# Altium schematic symbol library Schlib2.SchLib: 79 symbols
Pins are listed as number, name and electrical type; pins without a type are passive.

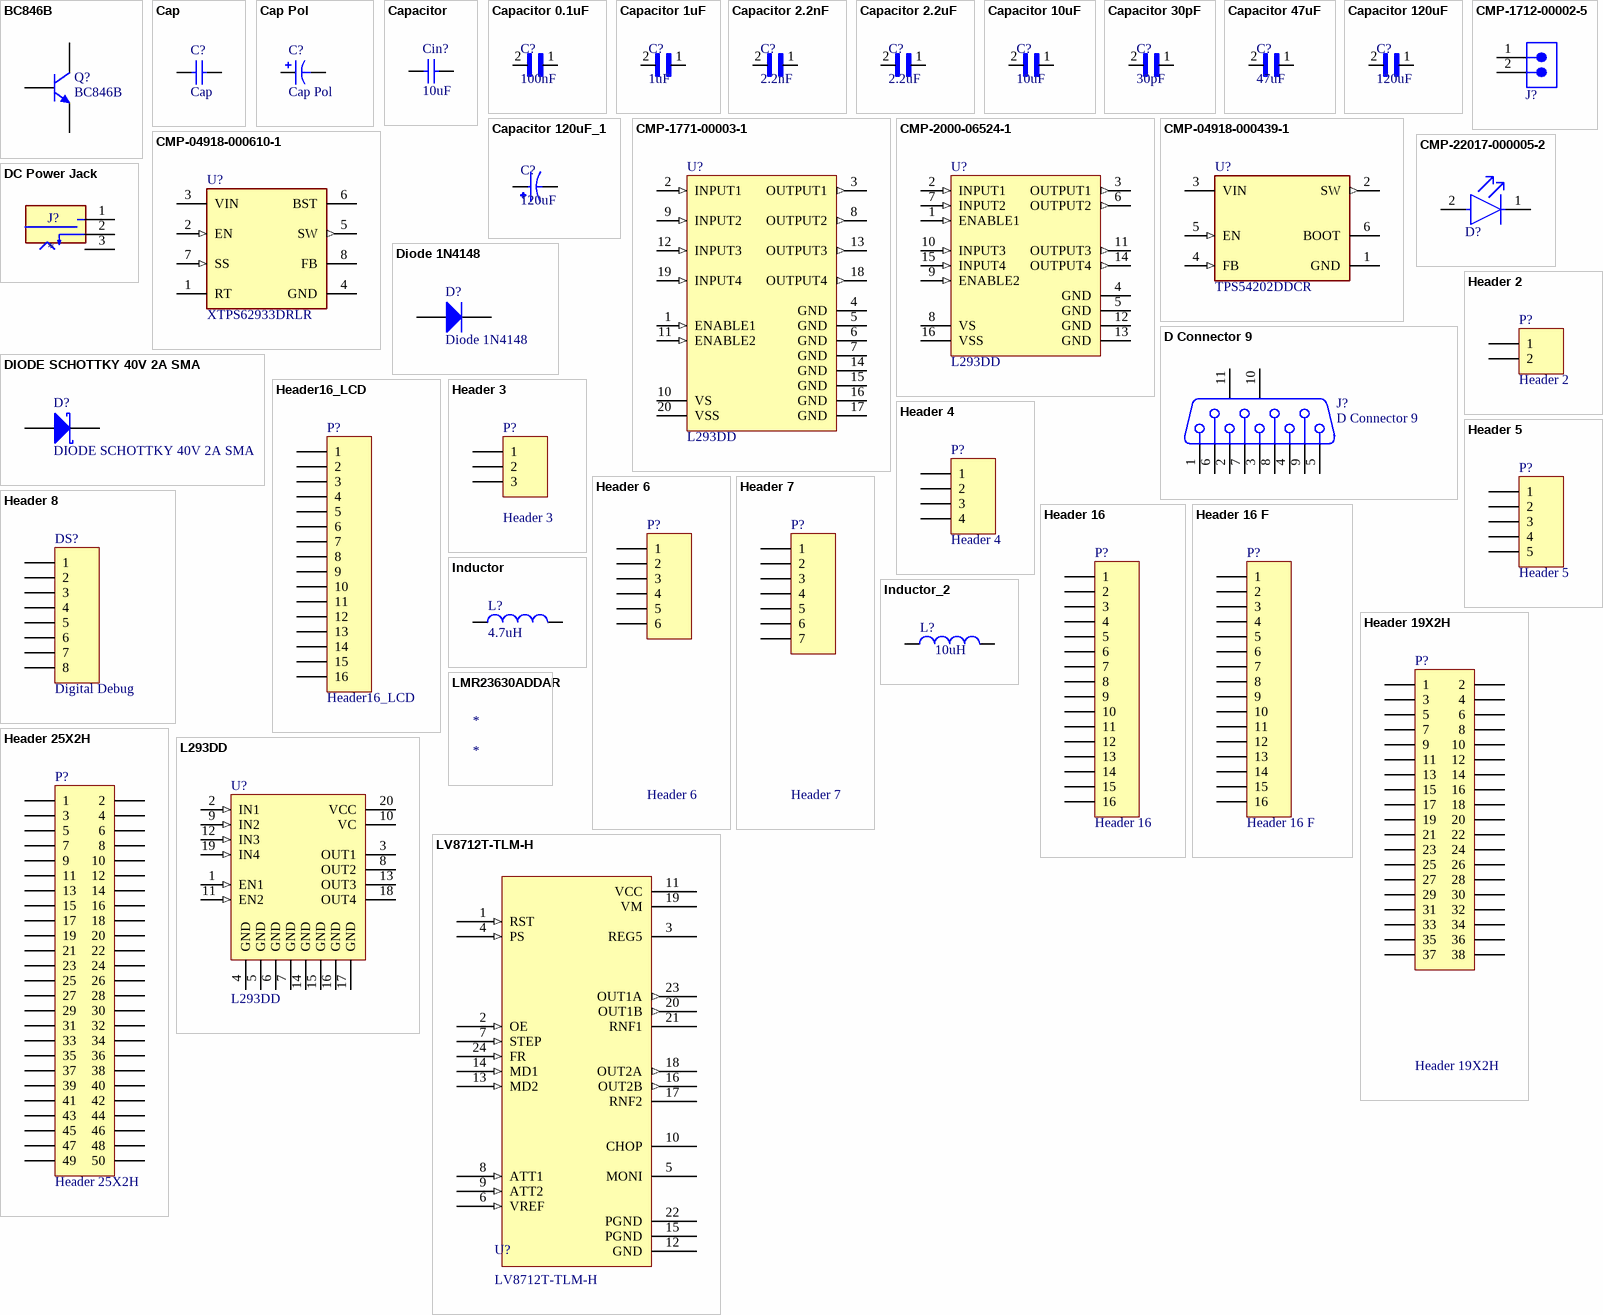
[diagram p0: symbols BC846B to LV8712T-TLM-H]

## BC846B
designator Q?
TRANS NPN 65V 0.1A SOT23; MPN: BC846B,215; PN: 568-1632-1-ND; URL: http://www.digikey.ca/product-detail/en/BC846B,215/568-1632-1-ND
footprint SOT95P230X110-3M (SOT23, 3-Leads, Body 2.90x2.30mm, Pitch 0.95mm, IPC Low Density)
pins: 1 B, 2 E, 3 C

## Cap
designator C?
Capacitor
pins: 1, 2

## Cap Pol
designator C?
Polarized Capacitor
pins: 1, 2
1 alternate drawing of the same symbol

## Capacitor
designator Cin?, comment value 10uF  (hidden comment: Capacitor Temp)
SimulationGenericComponent: True
simulation model C_Capacitor_Default (CAP)
footprint CAPC2012X09M (Chip Capacitor, 2-Leads, Body 2.00x1.25mm, IPC Low Density)
pins: 1, 2

## Capacitor 0.1uF
designator C?, comment 100nF
Ceramic Capacitor 1210; MF: Samsung Electro-Mechanics; MP: CL32A106KBJNNNE; Check_prices: https://www.snapeda.com/parts/CL32A106KBJNNNE/Samsung%20Electro-Mechanics/view-part/3598300/?ref=eda; Value: *; SnapEDA_Link: https://www.snapeda.com/parts/CL32A106KBJNNNE/Samsung%20Electro-Mechanics/view-part/3598300/?ref=snap; Package: 1210 Samsung; Availability: Unavailable; Price: None; Supplier 1: Mouser; Supplier Part Number 1: 80-C1210C104K1R
footprint 10 uF Cap (1210 footprint)
pins: 1, 2

## Capacitor 1uF
designator C?, comment 1uF
Ceramic Capacitor 1210; MF: Samsung Electro-Mechanics; MP: CL32A106KBJNNNE; Check_prices: https://www.snapeda.com/parts/CL32A106KBJNNNE/Samsung%20Electro-Mechanics/view-part/3598300/?ref=eda; Value: *; SnapEDA_Link: https://www.snapeda.com/parts/CL32A106KBJNNNE/Samsung%20Electro-Mechanics/view-part/3598300/?ref=snap; Package: 1210 Samsung; Availability: Unavailable; Price: None; Supplier 1: Arrow Electronics; Supplier Part Number 1: CL32B105KCJNNNE
footprint 10 uF Cap (1210 footprint)
pins: 1, 2

## Capacitor 2.2nF
designator C?, comment 2.2nF
Ceramic Capacitor 1210; MF: Samsung Electro-Mechanics; MP: CL32A106KBJNNNE; Check_prices: https://www.snapeda.com/parts/CL32A106KBJNNNE/Samsung%20Electro-Mechanics/view-part/3598300/?ref=eda; Value: *; SnapEDA_Link: https://www.snapeda.com/parts/CL32A106KBJNNNE/Samsung%20Electro-Mechanics/view-part/3598300/?ref=snap; Package: 1210 Samsung; Availability: Unavailable; Price: None; Supplier 1: Mouser; Supplier Part Number 1: 80-C1210C222K1HAUTO
footprint 10 uF Cap (1210 footprint)
pins: 1, 2

## Capacitor 2.2uF
designator C?, comment 2.2uF
Ceramic Capacitor 1210; MF: Samsung Electro-Mechanics; MP: CL32A106KBJNNNE; Check_prices: https://www.snapeda.com/parts/CL32A106KBJNNNE/Samsung%20Electro-Mechanics/view-part/3598300/?ref=eda; Value: *; SnapEDA_Link: https://www.snapeda.com/parts/CL32A106KBJNNNE/Samsung%20Electro-Mechanics/view-part/3598300/?ref=snap; Package: 1210 Samsung; Availability: Unavailable; Price: None; Supplier 1: Avnet; Supplier Part Number 1: 41AH7123
footprint 10 uF Cap (1210 footprint)
pins: 1, 2

## Capacitor 10uF
designator C?, comment 10uF
Ceramic Capacitor 1210; MF: Samsung Electro-Mechanics; MP: CL32A106KBJNNNE; Check_prices: https://www.snapeda.com/parts/CL32A106KBJNNNE/Samsung%20Electro-Mechanics/view-part/3598300/?ref=eda; Value: *; SnapEDA_Link: https://www.snapeda.com/parts/CL32A106KBJNNNE/Samsung%20Electro-Mechanics/view-part/3598300/?ref=snap; Package: 1210 Samsung; Availability: Unavailable; Price: None; Supplier 1: Avnet; Supplier Part Number 1: CL32A106KBJNNNE
footprint 10 uF Cap (1210 footprint)
pins: 1, 2

## Capacitor 30pF
designator C?, comment 30pF
Ceramic Capacitor 1210; MF: Samsung Electro-Mechanics; MP: CL32A106KBJNNNE; Check_prices: https://www.snapeda.com/parts/CL32A106KBJNNNE/Samsung%20Electro-Mechanics/view-part/3598300/?ref=eda; Value: *; SnapEDA_Link: https://www.snapeda.com/parts/CL32A106KBJNNNE/Samsung%20Electro-Mechanics/view-part/3598300/?ref=snap; Package: 1210 Samsung; Availability: Unavailable; Price: None; Supplier 1: Digikey; Supplier Part Number 1: 478-KGQ32DCG2D300JTCT-ND
footprint 10 uF Cap (1210 footprint)
pins: 1, 2

## Capacitor 47uF
designator C?, comment 47uF
Ceramic Capacitor 1210; MF: Samsung Electro-Mechanics; MP: CL32A106KBJNNNE; Check_prices: https://www.snapeda.com/parts/CL32A106KBJNNNE/Samsung%20Electro-Mechanics/view-part/3598300/?ref=eda; Value: *; SnapEDA_Link: https://www.snapeda.com/parts/CL32A106KBJNNNE/Samsung%20Electro-Mechanics/view-part/3598300/?ref=snap; Package: 1210 Samsung; Availability: Unavailable; Price: None; Supplier 1: Mouser; Supplier Part Number 1: 81-GRM32EC81C476KE5K
footprint 10 uF Cap (1210 footprint)
pins: 1, 2

## Capacitor 120uF
designator C?, comment 120uF
Ceramic Capacitor 1210; MF: Samsung Electro-Mechanics; MP: CL32A106KBJNNNE; Check_prices: https://www.snapeda.com/parts/CL32A106KBJNNNE/Samsung%20Electro-Mechanics/view-part/3598300/?ref=eda; Value: *; SnapEDA_Link: https://www.snapeda.com/parts/CL32A106KBJNNNE/Samsung%20Electro-Mechanics/view-part/3598300/?ref=snap; Package: 1210 Samsung; Availability: Unavailable; Price: None; Supplier 1: Avnet; Supplier Part Number 1: CL32A106KBJNNNE
footprint 10 uF Cap (1210 footprint)
pins: 1, 2

## Capacitor 120uF_1
designator C?, comment 120uF
120 µF 10 V Aluminum - Polymer Capacitors Radial, Can - SMD 27mOhm 2000 Hrs @ 105°C; MP: 10SVPC120M; Package: None; Price: None; Availability: Unavailable; Value: *
footprint Capacitor 120uF
pins: 1, 2

## CMP-1712-00002-5
designator J?, comment 61300211121  (value not drawn)
NexarPartId: 20081794; Manufacturer: Wurth Electronics; Operating Supply Voltage: 250V; Current Rating: 3A; Gender: Male; Number of Contacts: 2; Pitch: 2.54mm; Connector Type: Male Pin; Contact Resistance: 20mΩ; Contact Plating: Gold; Contact Material: Copper; Number of Pins: 2; Min Operating Temperature: -40°C; Packaging: Bulk; Lead Pitch: 2.54mm; Mount: Through Hole; Orientation: Vertical; RoHS: Compliant; REACH SVHC: No SVHC; Height: 8.94mm; Termination: Through Hole; Number of Positions: 2; Contact Mating Length: 5.9944mm; Color: Black; Contact Gender: Male; Number of Rows: 1; Housing Material: PBT; Lead Free: Lead Free; Voltage Rating: 250V; Max Operating Temperature: 125°C; Manufacturer Part Number: 61300211121
footprint 61300211121 (THT Vertical Pin Header WR-PHD, Pitch 2.54 mm, Single Row, 2 pins)
pins: 1, 2

## CMP-1771-00003-1
designator U?, comment L293DD
Push-Pull Four Channel Driver with Diodes, 4.5 to 36 V, 20-Pin SOIC, RoHS, Tube; Manufacturer: STMicroelectronics; Voltage Rating: 50 V; Power Rating: 100 mW; Case\Package: 0603; Resistance: 15 kohm; Tolerance: 1%; REACH SVHC: Unknown; Case Code (Imperial): 0603; ComponentLink2Description: Datasheet; ComponentLink2URL: http://www.st.com/content/ccc/resource/technical/document/datasheet/04/ac/22/f9/20/5d/43/a1/CD00000059.pdf/files/CD00000059.pdf/jcr:content/translations/en.CD00000059.pdf; Max Operating Temperature: 155 degC; Width: 0.8 mm; ComponentLink1URL: http://www.st.com/; ComponentLink1Description: Manufacturer URL; Length: 1.6 mm; Package Quantity: 5000; RoHSCompliant: true; Height: 0.45 mm; Mount: Surface Mount; PackageDescription: 20-Pin Small Outline Integrated Circuit, Body 12.8 x 7.5 mm, Pitch 1.27 mm; PackageReference: SOIC-20; Packaging: Tape and Reel; Min Operating Temperature: -55 degC; Case Code (Metric): 1608; DatasheetVersion: Jul-03; Manufacturer Part Number: L293DD
footprint STM-SOIC-20_M (SOIC, 20-Leads, Body 13x7.6mm, Pitch 1.27mm, IPC Low Density)
footprint STM-SOIC-20_L (SOIC, 20-Leads, Body 13x7.6mm, Pitch 1.27mm, IPC High Density)
footprint STM-SOIC-20_N (SOIC, 20-Leads, Body 13x7.6mm, Pitch 1.27mm, IPC Medium Density)
pins: 1 ENABLE1 (in), 2 INPUT1 (in), 3 OUTPUT1 (out), 4 GND (power), 5 GND (power), 6 GND (power), 7 GND (power), 8 OUTPUT2 (out), 9 INPUT2 (in), 10 VS (power), 11 ENABLE2 (in), 12 INPUT3 (in), 13 OUTPUT3 (out), 14 GND (power), 15 GND (power), 16 GND (power), 17 GND (power), 18 OUTPUT4 (out), 19 INPUT4 (in), 20 VSS (power)

## CMP-2000-06524-1
designator U?, comment L293DD
Push-Pull Four Channel Driver with Diode, 4.5 to 36 V, -40 to 150 degC, 16-Pin PDIP, RoHS, Tube; PartNumber: L293D; Manufacturer: STMicroelectronics; Number of Outputs: 4; Current - Peak Output: 1.2A; Current - Output / Channel: 600mA; Input Type: Non-Inverting; Other Related Documents: L293DViewAllSpecifications; Dynamic Catalog: HalfBridge; Voltage - Supply: 4.5V~36V; Other Names: 497-2936-5; Package / Case: 16-DIP(0.300",7.62mm); Operating Temperature: -40°C~150°C; Datasheet URL: http://www.st.com/st-web-ui/static/active/en/resource/technical/document/datasheet/CD00000059.pdf; Supplier Device Package: 16-PowerDIP; Packaging: Tube; Package Description: 16-Pin Thru-Hole Dual-In-Line, Body 20 x 6.85 mm, Pitch 2.54 mm; Standard Package: 25; Datasheet Version: 07/2003; On-State Resistance: -; Manufacturer URL: http://www.st.com/; Category: IntegratedCircuits(ICs); Family: PMIC-MOSFET,BridgeDrivers-InternalSwitch; Type: HalfBridge; Series: -; Mounting Technology: ThroughHole; Package Reference: DIP-16; Mounting Type: ThroughHole; Manufacturer Part Number: L293D
footprint STM-L293D-16 (DIP, 16-Leads, Body 20x6.85mm, Pitch 2.54mm)
pins: 1 ENABLE1 (in), 2 INPUT1 (in), 3 OUTPUT1 (out), 4 GND (power), 5 GND (power), 6 OUTPUT2 (out), 7 INPUT2 (in), 8 VS (power), 9 ENABLE2 (in), 10 INPUT3 (in), 11 OUTPUT3 (out), 12 GND (power), 13 GND (power), 14 OUTPUT4 (out), 15 INPUT4 (in), 16 VSS (power)

## CMP-04918-000439-1
designator U?, comment TPS54202DDCR
IC REG BUCK ADJ 2A TSOT23-6; Manufacturer: Texas Instruments; Switching Frequency: 500kHz; Quiescent Current: 40uA; Max Output Voltage: 28V; Output Configuration: Positive; Min Output Voltage: 596mV; Min Input Voltage: 4.5V; Synchronous Rectifier: Yes; Output Type: Adjustable; Number of Outputs: 1; Packaging: Tape and Reel; Case/Package: SOT-23-6; RoHS Compliant: Yes; Max Input Voltage: 28V; Max Operating Temperature: 125°C; Min Operating Temperature: -40°C; Output Current: 2A; Lead Free: Lead Free; Mount: Surface Mount; Manufacturer Part Number: TPS54202DDCR
footprint FP-DDC0006A-IPC_B
footprint FP-DDC0006A-IPC_A
footprint FP-DDC0006A-IPC_C
footprint FP-DDC0006A-MFG
pins: 1 GND (power), 2 SW (out), 3 VIN (power), 4 FB (in), 5 EN (in), 6 BOOT

## CMP-04918-000610-1
designator U?, comment XTPS62933DRLR
3.8-V to 30-V, 3-A, 200-kHz to 2.2-MHz, low-IQ synchronous buck converter in SOT-583 package 8-SOT-5X3 -40 to 150; Manufacturer: Texas Instruments; Manufacturer Part Number: XTPS62933DRLR
footprint FP-DRL0008A-MFG
pins: 1 RT, 2 EN (in), 3 VIN (power), 4 GND (power), 5 SW (out), 6 BST, 7 SS (in), 8 FB

## CMP-22017-000005-2
designator D?, comment LTST-C190GKT  (value not drawn)
LED GREEN CLEAR CHIP SMD; Manufacturer: Vishay Lite-On; Dominant Wavelength: 569nm; Reverse Voltage: 5V; Lens Color: Colorless; Viewing Angle: 130°; Voltage: 2V; Forward Current: 30mA; Power Dissipation: 100mW; Luminous Intensity: 6mcd; Number of LEDs: 1; Forward Voltage: 2.1V; Wavelength: 565nm; Test Current: 10mA; Min Operating Temperature: -55°C; Lens Style: Clear; Mount: Surface Mount; Width: 0.8mm; Packaging: Tape and Reel; Lens Transparency: Clear; Case Code (Metric): 1608; Depth: 0.8mm; Case Code (Imperial): 0603; Case/Package: 0603; Number of Pins: 2; Max Operating Temperature: 85°C; Lead Free: Lead Free; Number of Elements: 1; Length: 1.6mm; Height: 0.8mm; Package Quantity: 1; Power Rating: 100mW; Radiation Hardening: No; Illumination Color: Green; Color: Green; Manufacturer Part Number: LTST-C190GKT
footprint FP-LTST-C190GKT-MFG
pins: 1 C, 2 A

## D Connector 9
designator J?
Receptacle Assembly, 9 Position, Right Angle; MPN: ADF09A-KG-TASB3-R; PN: AE10921-ND; URL: http://www.digikey.ca/product-detail/en/ADF09A-KG-TASB3-R/AE10921-ND
footprint DSUB1.385-2H9 (Connector; D Subminiature; 9 Position; Right Angle; Pitch 1.385 mm)
signal-integrity model Connector
pins: 1, 2, 3, 4, 5, 6, 7, 8, 9, 10 MH1, 11 MH2

## DC Power Jack
designator J?
DC Power Connectors Power Jack/Connector 2.1mm x 5.5mm; MF: Gravitech; MP: CON-SOCJ-2155; Package: None; Value: *; Availability: In Stock; Check_prices: https://www.snapeda.com/parts/CON-SOCJ-2155/Gravitech/view-part/?ref=eda; SnapEDA_Link: https://www.snapeda.com/parts/CON-SOCJ-2155/Gravitech/view-part/?ref=snap; Price: None
footprint GRAVITECH_CON-SOCJ-2155
pins: 1, 2, 3

## Diode 1N4148
designator D?
High Conductance Fast Diode; MPN: 1N4148WX-TP; PN: 1N4148WXTPMSCT-ND; URL: http://www.digikey.ca/product-detail/en/1N4148WX-TP/1N4148WXTPMSCT-ND
signal-integrity model 1N4148
footprint zener_sod323
pins: A, K

## DIODE SCHOTTKY 40V 2A SMA
designator D?
Schottky Rectifier; MPN: B240A-13-F; PN: B240A-FDICT-ND; URL: http://www.digikey.ca/product-detail/en/B240A-13-F/B240A-FDICT-ND
footprint DIOM4326X23M (Molded Diode, 2-Leads, Body 4.30x2.60mm, IPC Low Density)
pins: 1 K, 2 A

## Header16_LCD
designator P?
Header, 16-Pin Female; MPN: PPPC161LFBN-RC; PN: S7049-ND; URL: http://www.digikey.ca/product-detail/en/PPPC161LFBN-RC/S7049-ND
signal-integrity model Connector
footprint HDR1X16 (Connector; Header; 16 Position)
pins: 1, 2, 3, 4, 5, 6, 7, 8, 9, 10, 11, 12, 13, 14, 15, 16

## Header 2
designator P?
Header, 2-Pin Male; MPN: PEC02SFAN; PN: S1212E-02-ND; URL: http://www.digikey.ca/product-detail/en/PEC04SFAN/S1212E-02-ND
footprint HDR1X2 (Connector; Header; 4 Position)
pins: 1, 2

## Header 3
designator P?
Header, 3-Pin Male; MPN: PEC03SFAN; PN: S1212E-03-ND; URL: http://www.digikey.ca/product-detail/en/PEC03SFAN/S1212E-03-ND
footprint HDR1X3 (Connector; Header; 3 Position)
pins: 1, 2, 3

## Header 4
designator P?
Header, 4-Pin Male; MPN: PEC04SFAN; PN: S1212E-04-ND; URL: http://www.digikey.ca/product-detail/en/PEC04SFAN/S1212E-04-ND
footprint HDR1X4 (Connector; Header; 4 Position)
pins: 1, 2, 3, 4

## Header 5
designator P?
Header, 5-Pin Male; MPN: PEC05SFAN; PN: S1212E-05-ND; URL: http://www.digikey.ca/product-detail/en/PEC05SFAN/S1212E-05-ND/859446
footprint HDR1X5 (Connector; Header; 5 Position)
pins: 1, 2, 3, 4, 5

## Header 6
designator P?
Header, 6-Pin Male; MPN: PEC06SFAN; PN: S1212E-06-ND; URL: http://www.digikey.ca/product-detail/en/PEC06SFAN/S1212E-06-ND
footprint HDR1X6 (Connector; Header; 6 Position)
pins: 1, 2, 3, 4, 5, 6

## Header 7
designator P?
Header, 7-Pin Male; MPN: PEC07SFAN; PN: S1212E-07-ND; URL: http://www.digikey.ca/product-detail/en/PEC07SFAN/S1212E-07-ND
footprint HDR1X7 (Connector; Header; 16 Position)
pins: 1, 2, 3, 4, 5, 6, 7

## Header 8
designator DS?, comment Digital Debug
Header, 8-Pin Male; MPN: PEC08SFAN; PN: S1212E-08-ND; URL: http://www.digikey.ca/product-detail/en/PEC08SFAN/S1212E-08-ND
footprint HDR1X8 (Connector; Header; 16 Position)
pins: 1, 2, 3, 4, 5, 6, 7, 8

## Header 16
designator P?
Header, 16-Pin Male; MPN: PEC16SFAN; PN: S1212E-16-ND; URL: http://www.digikey.ca/product-detail/en/PEC16SFAN/S1212E-16-ND
footprint HDR1X16 (Connector; Header; 16 Position)
pins: 1, 2, 3, 4, 5, 6, 7, 8, 9, 10, 11, 12, 13, 14, 15, 16

## Header 16 F
designator P?
Header, 16-Pin Female; MPN: PPPC161LFBN-RC; PN: S7049-ND; URL: http://www.digikey.ca/product-detail/en/PPPC161LFBN-RC/S7049-ND
footprint HDR1X16F (Connector; Header; 16 Position, Female)
pins: 1, 2, 3, 4, 5, 6, 7, 8, 9, 10, 11, 12, 13, 14, 15, 16

## Header 19X2H
designator P?
38 Position Header Connector 0.100in (2.54mm) Through Hole Gold; MPN: PPPC192LFBN-RC; PN: S7122-ND; URL: https://www.digikey.ca/product-detail/en/sullins-connector-solutions/PPPC192LFBN-RC/S7122-ND
signal-integrity model Connector
footprint PPPC192LFBN-RC (38 Position Header Connector 0.100in (2.54mm) Through Hole Gold)
pins: 1, 2, 3, 4, 5, 6, 7, 8, 9, 10, 11, 12, 13, 14, 15, 16, 17, 18, 19, 20, 21, 22, 23, 24, 25, 26, 27, 28, 29, 30, 31, 32, 33, 34, 35, 36, 37, 38

## Header 25X2H
designator P?
Header, 25-Pin, Dual row, female; MPN: PPPC252LFBN-RC; PN: S7128-ND; URL: http://www.digikey.ca/product-detail/en/PPPC252LFBN-RC/S7128-ND
signal-integrity model Connector
footprint PPPC252LFBN-RC (Connector; Header; 25x2 Position, Large pads)
pins: 1, 2, 3, 4, 5, 6, 7, 8, 9, 10, 11, 12, 13, 14, 15, 16, 17, 18, 19, 20, 21, 22, 23, 24, 25, 26, 27, 28, 29, 30, 31, 32, 33, 34, 35, 36, 37, 38, 39, 40, 41, 42, 43, 44, 45, 46, 47, 48, 49, 50

## Inductor
designator L?, comment value 4.7uH  (hidden comment: 15uH)
15 µH Unshielded Wirewound Inductor 4 A 36mOhm Max Nonstandard; SimulationGenericComponent: True
simulation model L_Inductor_Default (INDUCTOR)
footprint 15uH Inductor (FIXED IND 15UH 4A 36 MOHM SMD)
pins: 1, 2

## Inductor_2
designator L?, comment 10uH  (value not drawn)
10 µH Unshielded Wirewound Inductor 2.6 A 60mOhm Max 2424 (6060 Metric); SimulationGenericComponent: True
footprint 10uH Inductor (10 µH Unshielded Wirewound Inductor 2.6 A 60mOhm Max 2424 (6060 Metric))
pins: 1, 2

## L293DD
designator U?
IC MOTOR DRIVER PAR 20-SOIC; MPN: L293DD013TR; PN: 497-2937-1-ND; Published: 8-Jun-2000; LatestRevisionDate: 13-Apr-2006; LatestRevisionNote: IPC-7351 Footprint Added.; DatasheetVersion: Jun-1996; PackageVersion: Jul-2001; PackageReference: SO20; Publisher: Altium Limited; PackageDescription: 20-Pin Plastic Small Outline Integrated Circuit 1.27 mm Pitch; Code_JEDEC: MS-013-AC; Code_IPC: SOIC127P1030-20; ComponentLink1Description: Manufacturer Link; ComponentLink1URL: http://www.st.com/; ComponentLink2Description: Datasheet; ComponentLink2URL: http://www.st.com/stonline/products/literature/ds/1330/l293d.pdf; URL: http://www.digikey.ca/product-detail/en/L293DD013TR/497-2937-1-ND
footprint SO20_N (SOIC, 20-Leads, Body 12.8x7.5mm, Pitch 1.27mm, IPC Medium Density)
footprint SO20_L (SOIC, 20-Leads, Body 12.8x7.5mm, Pitch 1.27mm, IPC High Density)
footprint SO20_M (SOIC, 20-Leads, Body 12.8x7.5mm, Pitch 1.27mm, IPC Low Density)
3D model SO20 (PCB3D Model)
pins: 1 EN1 (in), 2 IN1 (in), 3 OUT1 (hiz), 4 GND (power), 5 GND (power), 6 GND (power), 7 GND (power), 8 OUT2 (hiz), 9 IN2 (in), 10 VC (power), 11 EN2 (in), 12 IN3 (in), 13 OUT3 (hiz), 14 GND (power), 15 GND (power), 16 GND (power), 17 GND (power), 18 OUT4 (hiz), 19 IN4 (in), 20 VCC (power)

## LMR23630ADDAR
designator *
Switching Regulator, Current-mode, 3A, 2200kHz Switching Freq-Max, PDSO8; Manufacturer: Texas Instruments; Manufacturer Part Number: LMR23630ADDAR; Package Body Material: Plastic; Control Technique: PULSE WIDTH MODULATION; Max Supply Voltage: 36V; Min Input Voltage: 4V; Nominal Supply Voltage: 12V; Channels: 1; Max Output current: 6.2A; Switcher Configuration: BUCK; Frequency: 400kHz; Supplier: Arrow Electronics; Supplier Part Number: LMR23630ADDAR; RoHS: Yes; Category: Voltage Regulators - Switching; Stock: 1570; Pricing: 1=3.726, 10=3.185, 25=3.121, 100=2.685, 250=2.516, 500=2.238, 1000=1.816 (USD); Case/Package: HLSOP; Pins: 8; Package Shape: Rectangular; Min Operating Temperature: -40°C; Max Operating Temperature: 125°C; Throw Configuration: SWITCHING REGULATOR; Control Mode: CURRENT-MODE; JESD-30 Code: R-PDSO-G8; Moisture Sensitivity Level: 2; Package Style: SMALL OUTLINE, HEAT SINK/SLUG, LOW PROFILEMeter; Surface Mount: Yes; Terminal Form: Gull Wing; Terminal Position: DUAL; Length: 4.9mm; Width: 3.9mm; Height - Seated (Max): 1.7mm; Terminal Pitch: 1.27mm; Temperature Grade: AUTOMOTIVE; Reach SVHC Compliant: Yes; RoHS Compliant: Yes; ComponentLink1URL: https://www.ti.com:443/lit/ds/symlink/lmr23630.pdf?src-supplier=IHS+Markit; ComponentLink1Description: https://www.ti.com:443/lit/ds/symlink/lmr23630.pdf?src-supplier=IHS+Markit; ComponentLink2URL: http://www.ti.com/general/docs/suppproductinfo.tsp?distId=10&amp;gotoUrl=http%3A%2F%2Fwww.ti.com%2Flit%2Fgpn%2Flmr23630&src-supplier=Digikey; ComponentLink2Description: http://www.ti.com/general/docs/suppproductinfo.tsp?distId=10&amp;gotoUrl=http%3A%2F%2Fwww.ti.com%2Flit%2Fgpn%2Flmr23630&src-supplier=Digikey; ComponentLink3URL: http://www.ti.com/lit/ds/symlink/lmr23630.pdf?src-supplier=Digikey; ComponentLink3Description: http://www.ti.com/lit/ds/symlink/lmr23630.pdf?src-supplier=Digikey

## LV8712T-TLM-H
designator U?
IC MOTOR DRIVER PAR 24TSSOP; PN: 869-1290-1-ND; URL: http://www.digikey.ca/product-detail/en/on-semiconductor/LV8712T-TLM-H/869-1290-1-ND; MPN: LV8712T-TLM-H
footprint ONSEMITSSOP50P640X120-24M (On Semi TSSOP, 24-Leads, Body 6.50x4.40mm, Pitch 0.50mm, IPC Low Density)
pins: 1 RST (in), 2 OE (in), 3 REG5 (power), 4 PS (in), 5 MONI (oc), 6 VREF (in), 7 STEP (in), 8 ATT1 (in), 9 ATT2 (in), 10 CHOP, 11 VCC (power), 12 GND (power), 13 MD2 (in), 14 MD1 (in), 15 PGND (power), 16 OUT2B (out), 17 RNF2, 18 OUT2A (out), 19 VM (power), 20 OUT1B (out), 21 RNF1, 22 PGND (power), 23 OUT1A (out), 24 FR (in)

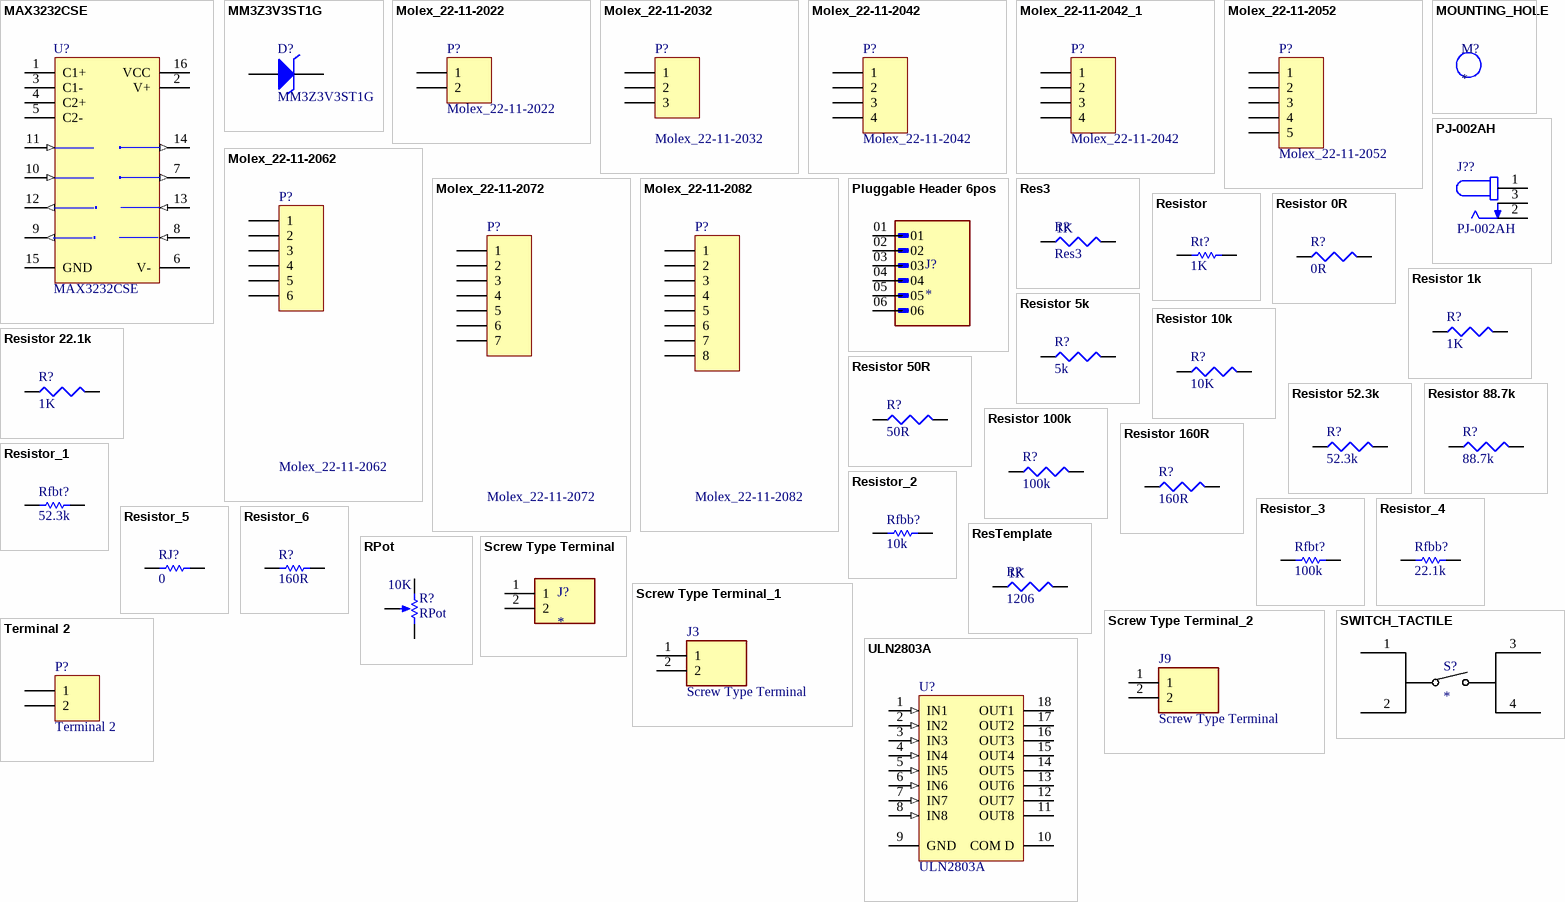
[diagram p1: symbols MAX3232CSE to ULN2803A]

## MAX3232CSE
designator U?
3.0V TO 5.5V, Low-Power, up to 1Mbps, True RS-232 Transceiver Using Four 0.1µF External Capacitor; MPN: MAX3232CSE+; PN: MAX3232CSE+-ND; Published: 16-Jan-2001; LatestRevisionDate: 13-Apr-2006; LatestRevisionNote: IPC-7351 Footprint Added.; DatasheetVersion: Mar-1999; PackageReference: NSO16; Publisher: Altium Limited; PackageDescription: 16-Pin Small Outline Integrated Circuit 1.27 mm Pitch; Code_JEDEC: MS-012-AC; Code_IPC: SOIC127P600-16; ComponentLink1Description: Manufacturer Link; ComponentLink1URL: http://www.maxim-ic.com/; ComponentLink2Description: Datasheet; ComponentLink2URL: http://pdfserv.maxim-ic.com/en/ds/MAX3222-MAX3241.pdf; URL: http://www.digikey.ca/product-detail/en/MAX3232CSE%2B/MAX3232CSE%2B-ND
footprint NSO16_N (SOIC, 16-Leads, Body 9.9x3.9mm, Pitch 1.27mm, IPC Medium Density)
footprint NSO16_L (SOIC, 16-Leads, Body 9.9x3.9mm, Pitch 1.27mm, IPC High Density)
footprint NSO16_M (SOIC, 16-Leads, Body 9.9x3.9mm, Pitch 1.27mm, IPC Low Density)
3D model NSO16 (PCB3D Model)
pins: 1 C1+, 2 V+ (power), 3 C1-, 4 C2+, 5 C2-, 6 V- (power), 7 T2OUT (out), 8 R2IN (in), 9 R2OUT (out), 10 T2IN (in), 11 T1IN (in), 12 R1OUT (out), 13 R1IN (in), 14 T1OUT (out), 15 GND (power), 16 VCC (power)

## MM3Z3V3ST1G
designator D?
3.3V, 200mw Zener; PN: MM3Z3V3ST1GOSCT-ND; URL: http://www.digikey.ca/product-detail/en/MM3Z3V3ST1G/MM3Z3V3ST1GOSCT-ND/2705113
signal-integrity model Diode
footprint zener_sod323
pins: A, K

## Molex_22-11-2022
designator P?
CONN HEADER 2POS .100 VERT GOLD; MPN: 0022112022; PN: WM2700-ND; URL: http://www.digikey.ca/product-detail/en/0022112022/WM2700-ND
footprint MOLEX-22-11-2022 (CONN HEADER 2POS .100 VERT GOLD)
pins: 1, 2

## Molex_22-11-2032
designator P?
CONN HEADER 3POS .100 VERT GOLD; MPN: 0022112032; PN: WM2701-ND; URL: http://www.digikey.ca/product-detail/en/0022112032/WM2701-ND
footprint MOLEX_22-11-2032 (CONN HEADER 3POS .100 VERT GOLD)
pins: 1, 2, 3

## Molex_22-11-2042
designator P?
CONN HEADER 4POS .100 VERT GOLD; MPN: 0022112042; PN: WM2702-ND; URL: http://www.digikey.ca/product-detail/en/0022112042/WM2702-ND
footprint MOLEX-22-11-2042 (CONN HEADER 4POS .100 VERT GOLD)
pins: 1, 2, 3, 4

## Molex_22-11-2042_1
designator P?, comment Molex_22-11-2042
CONN HEADER 4POS .100 VERT GOLD; MPN: 0022112042; PN: WM2702-ND; URL: http://www.digikey.ca/product-detail/en/0022112042/WM2702-ND
footprint MOLEX-22-11-2042 (CONN HEADER 4POS .100 VERT GOLD)
pins: 1, 2, 3, 4

## Molex_22-11-2052
designator P?
CONN HEADER 5POS .100 VERT GOLD; MPN: 0022112052; PN: WM2703-ND; URL: http://www.digikey.ca/product-detail/en/0022112052/WM2703-ND
footprint MOLEX_22-11-2052 (CONN HEADER 5POS .100 VERT GOLD)
pins: 1, 2, 3, 4, 5

## Molex_22-11-2062
designator P?
CONN HEADER 6POS .100 VERT GOLD; MPN: 0022112062; PN: WM2704-ND; URL: http://www.digikey.ca/product-detail/en/0022112062/WM2704-ND
footprint MOLEX_22-11-2062 (CONN HEADER 6POS .100 VERT GOLD)
pins: 1, 2, 3, 4, 5, 6

## Molex_22-11-2072
designator P?
CONN HEADER 7POS .100 VERT GOLD; PN: WM2705-ND; URL: http://www.digikey.ca/product-detail/en/22-11-2072/WM2705-ND; MPN: 22-11-2072
footprint MOLEX_22-11-2072 (CONN HEADER 7POS .100 VERT GOLD)
pins: 1, 2, 3, 4, 5, 6, 7

## Molex_22-11-2082
designator P?
CONN HEADER 8POS .100 VERT GOLD; MPN: 0022112082; PN: WM2706-ND; URL: http://www.digikey.ca/product-detail/en/0022112082/WM2706-ND
footprint MOLEX_22-11-2082 (CONN HEADER 8POS .100 VERT GOLD)
pins: 1, 2, 3, 4, 5, 6, 7, 8

## MOUNTING_HOLE
designator M?
Mounting Hole
footprint MOUNTING_HOLE

## PJ-002AH
designator J??
2.0 x 6.5 mm, 5.0 A, Horizontal, Through Hole, Dc Power Jack Connector; MF: CUI Devices; Purchase-URL: https://pricing.snapeda.com/search/part/PJ-002AH/?ref=eda; Check_prices: https://www.snapeda.com/parts/PJ-002AH/CUI+Devices/view-part/?ref=eda; Value: *; Package: None; Price: None; Availability: In Stock; MP: PJ-002AH; CUI_purchase_URL: https://www.cuidevices.com/product/interconnect/connectors/dc-power-connectors/jacks/pj-002ah?utm_source=snapeda.com&utm_medium=referral&utm_campaign=snapedaBOM; SnapEDA_Link: https://www.snapeda.com/parts/PJ-002AH/CUI+Devices/view-part/?ref=snap
footprint CUI_PJ-002AH
pins: 1, 2, 3

## Pluggable Header 6pos
designator J?
Pluggable Header 5.08mm 12AWG 320V 12A 6 Position COMBICON MSTBA Series | Phoenix Contact 1757284; SnapEDA_Link: https://www.snapeda.com/parts/1757284/Phoenix+Contact/view-part/?ref=snap; Package: None; Value: *; MF: Phoenix Contact; MP: 1757284; Check_prices: https://www.snapeda.com/parts/1757284/Phoenix+Contact/view-part/?ref=eda
footprint PHOENIX_1757284 (6 pos connector)
pins: 01, 02, 03, 04, 05, 06

## Res3
designator R?  value 1K
Resistor
footprint RESC2112X05M (Chip Resistor, 2-Leads, Body 2.05x1.25mm, IPC Low Density)
pins: 1, 2

## Resistor
designator Rt?  value 1K  (hidden comment: Resistor)
TC1: 0; SimulationGenericComponent: True; TC2: 0
simulation model R_Resistor_Default (Model Description)
pins: 1, 2

## Resistor 0R
designator R?, comment 0R
0R 1206 smd; Supplier: Arrow Electronics; Supplier Part Number: RMCF1206FT10K0; Supplier 1: Avnet; Supplier Part Number 1: 84W7269
footprint RESC2112X05M (Chip Resistor, 2-Leads, Body 2.05x1.25mm, IPC Low Density)
pins: 1, 2

## Resistor 1k
designator R?, comment 1K
1k 1206 smd; Supplier: Arrow Electronics; Supplier Part Number: RMCF1206FT10K0; Supplier 1: Arrow Electronics; Supplier Part Number 1: RMCF1206FT1K00
footprint RESC2112X05M (Chip Resistor, 2-Leads, Body 2.05x1.25mm, IPC Low Density)
pins: 1, 2

## Resistor 5k
designator R?, comment 5k
5k 1206 smd; Supplier: Arrow Electronics; Supplier Part Number: RMCF1206FT10K0; Supplier 1: Digikey; Supplier Part Number 1: PNM1206-5.0KBCT-ND
footprint RESC2112X05M (Chip Resistor, 2-Leads, Body 2.05x1.25mm, IPC Low Density)
pins: 1, 2

## Resistor 10k
designator R?, comment 10K
10k 1206 smd; Supplier: Arrow Electronics; Supplier Part Number: RMCF1206FT10K0; Supplier 1: Arrow Electronics; Supplier Part Number 1: RMCF1206FT10K0
footprint RESC2112X05M (Chip Resistor, 2-Leads, Body 2.05x1.25mm, IPC Low Density)
pins: 1, 2

## Resistor 22.1k
designator R?, comment 1K
22.1k 1206 smd; Supplier: Arrow Electronics; Supplier Part Number: RMCF1206FT10K0; Supplier 1: Avnet; Supplier Part Number 1: RMCF1206FT22K1
footprint RESC2112X05M (Chip Resistor, 2-Leads, Body 2.05x1.25mm, IPC Low Density)
pins: 1, 2

## Resistor 50R
designator R?, comment 50R
50R 1206 smd; Supplier: Arrow Electronics; Supplier Part Number: RMCF1206FT10K0; Supplier 1: Mouser; Supplier Part Number 1: 71-RCP1206W50R0GEB
footprint RESC2112X05M (Chip Resistor, 2-Leads, Body 2.05x1.25mm, IPC Low Density)
pins: 1, 2

## Resistor 52.3k
designator R?, comment 52.3k
1206 smd; Supplier: Arrow Electronics; Supplier Part Number: RMCF1206FT10K0; Supplier 1: Arrow Electronics; Supplier Part Number 1: RMCF1206FT160R
footprint RESC2112X05M (Chip Resistor, 2-Leads, Body 2.05x1.25mm, IPC Low Density)
pins: 1, 2

## Resistor 88.7k
designator R?, comment 88.7k
88.7k 1206 smd; Supplier: Arrow Electronics; Supplier Part Number: RMCF1206FT10K0; Supplier 1: Arrow Electronics; Supplier Part Number 1: ERJ-8ENF8872V
footprint RESC2112X05M (Chip Resistor, 2-Leads, Body 2.05x1.25mm, IPC Low Density)
pins: 1, 2

## Resistor 100k
designator R?, comment 100k
100k 1206 smd; Supplier: Arrow Electronics; Supplier Part Number: RMCF1206FT10K0; Supplier 1: Arrow Electronics; Supplier Part Number 1: RMCF1206FT10K0
footprint RESC2112X05M (Chip Resistor, 2-Leads, Body 2.05x1.25mm, IPC Low Density)
pins: 1, 2

## Resistor 160R
designator R?, comment 160R
1206 smd; Supplier: Arrow Electronics; Supplier Part Number: RMCF1206FT10K0; Supplier 1: Arrow Electronics; Supplier Part Number 1: RMCF1206FT160R
footprint RESC2112X05M (Chip Resistor, 2-Leads, Body 2.05x1.25mm, IPC Low Density)
pins: 1, 2

## Resistor_1
designator Rfbt?, comment value 52.3k  (hidden comment: Resistor)
TC1: 0; SimulationGenericComponent: True; TC2: 0
simulation model R_Resistor_Default (Model Description)
pins: 1, 2

## Resistor_2
designator Rfbb?, comment value 10k  (hidden comment: Resistor)
TC1: 0; SimulationGenericComponent: True; TC2: 0
simulation model R_Resistor_Default (Model Description)
pins: 1, 2

## Resistor_3
designator Rfbt?, comment value 100k  (hidden comment: Resistor)
TC1: 0; SimulationGenericComponent: True; TC2: 0
simulation model R_Resistor_Default (Model Description)
pins: 1, 2

## Resistor_4
designator Rfbb?, comment value 22.1k  (hidden comment: Resistor)
TC1: 0; SimulationGenericComponent: True; TC2: 0
simulation model R_Resistor_Default (Model Description)
pins: 1, 2

## Resistor_5
designator RJ?, comment value 0  (hidden comment: Resistor)
SimulationGenericComponent: True; TC1: 0; TC2: 0
simulation model R_Resistor_Default (Model Description)
pins: 1, 2

## Resistor_6
designator R?, comment value 160R  (hidden comment: Resistor)
TC1: 0; SimulationGenericComponent: True; TC2: 0
simulation model R_Resistor_Default (Model Description)
pins: 1, 2

## ResTemplate
designator R?, comment 1206  value 1K
Resistor
footprint RESC2112X05M (Chip Resistor, 2-Leads, Body 2.05x1.25mm, IPC Low Density)
pins: 1, 2

## RPot
designator R?  value 10K
POT 10K OHM THUMBWHEEL CERM ST; MPN: 3352T-1-103LF; Sim Note: Enter the Resistance value and the set point into parameter fields.; Set Position: 0.5; PN: 3352T-103LF-ND; Published: 8-Jun-2000; LatestRevisionDate: 17-Jul-2002; LatestRevisionNote: Re-released for DXP Platform.; PackageReference: VR5; Publisher: Altium Limited; PackageDescription: Variable Resistor, Thru-Hole; 3 Leads; URL: http://www.digikey.ca/product-detail/en/3352T-1-103LF/3352T-103LF-ND
footprint BOURNS_3386F (Top Adjust Trimpot)
pins: 1 TOP, 2 TAP, 3 BOT
1 alternate drawing of the same symbol

## Screw Type Terminal
designator J?
2~24 Poles, Screw Type, Horizontal, 5.0 Pitch, 22~12 (AWG), Terminal Block Connector; MP: TB002-500-02BE; MF: CUI Devices; Purchase-URL: https://pricing.snapeda.com/search/part/TB002-500-02BE/?ref=eda; Package: None; Price: None; Availability: In Stock; SnapEDA_Link: https://www.snapeda.com/parts/TB002-500-02BE/CUI+Devices/view-part/?ref=snap; Value: *; Check_prices: https://www.snapeda.com/parts/TB002-500-02BE/CUI+Devices/view-part/?ref=eda; CUI_purchase_URL: https://www.cuidevices.com/product/interconnect/connectors/terminal-blocks/tb002-500-series?utm_source=snapeda.com&utm_medium=referral&utm_campaign=snapedaBOM
footprint 2 Pin Terminal Blue Screw
pins: 1, 2

## Screw Type Terminal_1
designator J3, comment Screw Type Terminal
2~24 Poles, Screw Type, Horizontal, 5.0 Pitch, 22~12 (AWG), Terminal Block Connector; MP: TB002-500-02BE; MF: CUI Devices; Purchase-URL: https://pricing.snapeda.com/search/part/TB002-500-02BE/?ref=eda; Package: None; Price: None; Availability: In Stock; SnapEDA_Link: https://www.snapeda.com/parts/TB002-500-02BE/CUI+Devices/view-part/?ref=snap; Value: *; Check_prices: https://www.snapeda.com/parts/TB002-500-02BE/CUI+Devices/view-part/?ref=eda; CUI_purchase_URL: https://www.cuidevices.com/product/interconnect/connectors/terminal-blocks/tb002-500-series?utm_source=snapeda.com&utm_medium=referral&utm_campaign=snapedaBOM
footprint 2 Pin Terminal Blue Screw
pins: 1, 2

## Screw Type Terminal_2
designator J9, comment Screw Type Terminal
2~24 Poles, Screw Type, Horizontal, 5.0 Pitch, 22~12 (AWG), Terminal Block Connector; MP: TB002-500-02BE; MF: CUI Devices; Purchase-URL: https://pricing.snapeda.com/search/part/TB002-500-02BE/?ref=eda; Package: None; Price: None; Availability: In Stock; SnapEDA_Link: https://www.snapeda.com/parts/TB002-500-02BE/CUI+Devices/view-part/?ref=snap; Value: *; Check_prices: https://www.snapeda.com/parts/TB002-500-02BE/CUI+Devices/view-part/?ref=eda; CUI_purchase_URL: https://www.cuidevices.com/product/interconnect/connectors/terminal-blocks/tb002-500-series?utm_source=snapeda.com&utm_medium=referral&utm_campaign=snapedaBOM
footprint 2 Pin Terminal Blue Screw
pins: 1, 2

## SWITCH_TACTILE
designator S?
SWITCH TACTILE SPST-NO 0.05A 12V; MPN: PTS645SH50SMTR92 LFS; PN: CKN9085CT-ND; URL: http://www.digikey.ca/product-detail/en/PTS645SH50SMTR92%20LFS/CKN9085CT-ND
footprint TACT_SWITCH_6MM_SMT
pins: 1, 2, 3, 4

## Terminal 2
designator P?
Terminal, 2-Pin; MPN: 282841-2; PN: A98342-ND; LatestRevisionDate: 17-Jul-2002; LatestRevisionNote: Re-released for DXP Platform.; Publisher: Altium Limited; URL: http://www.digikey.ca/product-detail/en/282841-2/A98342-ND/1136740
signal-integrity model Connector
footprint TYCO_282841_2
pins: 1, 2

## ULN2803A
designator U?
Eight Darlington Array; PN: ULN2803AFWGCELCT-ND; Published: 8-Jun-2000; LatestRevisionDate: 06-Jun-2005; LatestRevisionNote: Stylized 3D Model Added.; DatasheetVersion: Sep-1997; PackageReference: DIP18; Publisher: Altium Limited; PackageDescription: DIP; 18 Leads; Row Spacing 7.62 mm; Pitch 2.54 mm; ComponentLink1Description: Manufacturer Link; ComponentLink1URL: http://www.st.com/; ComponentLink2Description: Datasheet; ComponentLink2URL: http://www.st.com/stonline/products/literature/ds/1536/uln2801a.pdf; URL: http://www.digikey.ca/product-detail/en/ULN2803AFWG,C,EL/ULN2803AFWGCELCT-ND/2183710
footprint SOIC127P1030X260-18M (SOIC, 18-Leads, Body 11.51x7.50mm, Pitch 1.27mm, IPC Low Density)
pins: 1 IN1 (in), 2 IN2 (in), 3 IN3 (in), 4 IN4 (in), 5 IN5 (in), 6 IN6 (in), 7 IN7 (in), 8 IN8 (in), 9 GND (power), 10 COM D, 11 OUT8 (oc), 12 OUT7 (oc), 13 OUT6 (oc), 14 OUT5 (oc), 15 OUT4 (oc), 16 OUT3 (oc), 17 OUT2 (oc), 18 OUT1 (oc)